# Altium schematic symbol library Schlib.SchLib: 166 symbols (part 4 of 4)
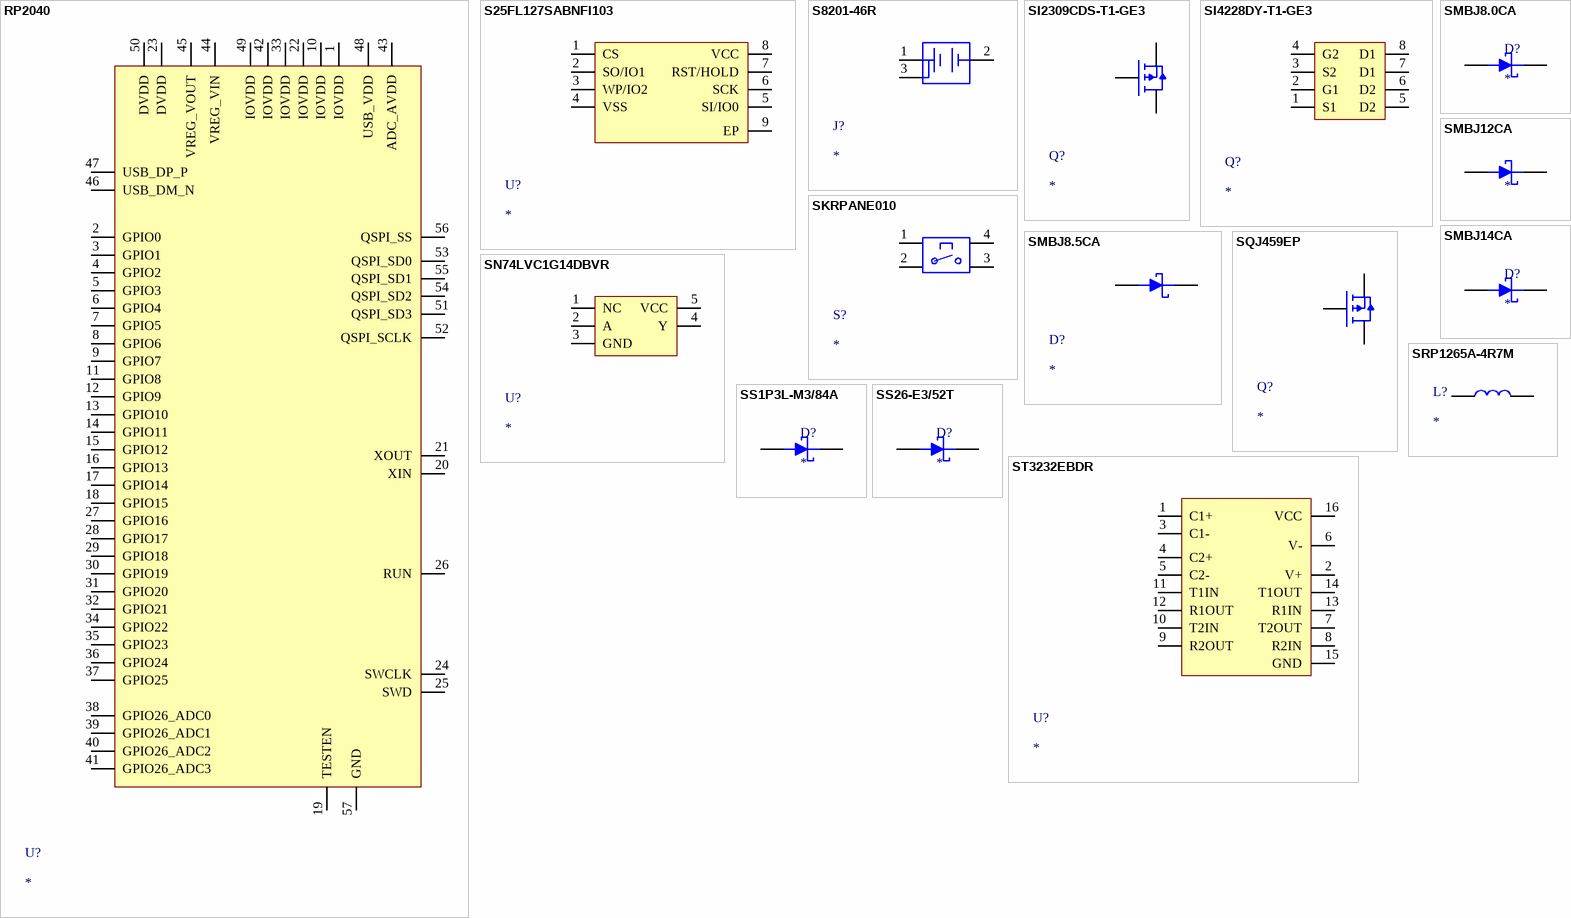
[diagram p9: symbols RP2040 to ST3232EBDR]

## SQJ459EP
designator Q?
Power Field-Effect Transistor, 52A I(D), 60V, 0.018ohm, 1-Element, P-Channel, Silicon, Metal-oxide Semiconductor FET; Manufacturer: Vishay Semiconductors; Manufacturer Part Number: SQJ459EP-T1_GE3; Package Body Material: Plastic; Avalanche Energy Rating (Eas): 80mJ; Case Connection: DRAIN; Drain-source On Resistance-Max: 18mR; Number of Elements: 1; Operating Mode: ENHANCEMENT MODE; Pulsed Drain Current-Max (IDM): 200A; Supplier: Mouser; Supplier Part Number: 78-SQJ459EP-T1_GE3; RoHS: Yes; Category: MOSFETs; Stock: 17073; Pricing: 1=1,59, 10=1,2, 50=1,2, 100=0,864, 1000=0,633, 10000=0,526 (USD); Pins: 4; Package Shape: Rectangular; Transistor Element Material: SILICON; Polarity/Channel Type: P-CHANNEL; Drain Current-Max (ID): 52A; DS Breakdown Voltage-Min: 60V; FET Technology: METAL-OXIDE SEMICONDUCTOR; Package Style: SMALL OUTLINEMeter; Surface Mount: Yes; Terminal Form: Gull Wing; Terminal Position: SINGLE; RoHS Compliant: Yes; ComponentLink1URL: https://datasheet.ciiva.com:443/pdfs/VipMasterIC/IC/VISH/VISH-S-A0004852785/VISH-S-A0004852766-1.pdf?src-supplier=IHS+Markit; ComponentLink1Description: https://datasheet.ciiva.com:443/pdfs/VipMasterIC/IC/VISH/VISH-S-A0004852785/VISH-S-A0004852766-1.pdf?src-supplier=IHS+Markit; ComponentLink2URL: http://www.farnell.com/datasheets/2614551.pdf?src-supplier=Farnell; ComponentLink2Description: http://www.farnell.com/datasheets/2614551.pdf?src-supplier=Farnell; ComponentLink3URL: http://www.farnell.com/datasheets/2614551.pdf?src-supplier=Newark; ComponentLink3Description: http://www.farnell.com/datasheets/2614551.pdf?src-supplier=Newark; ComponentLink4URL: https://datasheet.octopart.com/SQJ459EP-T1_GE3-Vishay-datasheet-137754848.pdf?src-supplier=Future+Electronics; ComponentLink4Description: https://datasheet.octopart.com/SQJ459EP-T1_GE3-Vishay-datasheet-137754848.pdf?src-supplier=Future+Electronics; ComponentLink5URL: http://www.vishay.com/docs/66963/sqj459ep.pdf?src-supplier=Digikey; ComponentLink5Description: http://www.vishay.com/docs/66963/sqj459ep.pdf?src-supplier=Digikey; ComponentLink6URL: http://www.farnell.com/datasheets/2614551.pdf?src-supplier=Element14; ComponentLink6Description: http://www.farnell.com/datasheets/2614551.pdf?src-supplier=Element14
footprint SQJ459EP-T1_GE3
pins: 1 S, 4 G, 5 D

## SRP1265A-4R7M
designator L?
Inductor Power Shielded Wirewound 4.7uH 20% 100KHz 20Q-Factor Carbonyl Powder 13.5A 8.4mOhm DCR Automotive T/R; Manufacturer: Bourns; Manufacturer Part Number: SRP1265A-4R7M; Saturation Current: 28A; DC Resistance (DCR): 8.4mR; Self Resonant Frequency: 17MHz; Supplier 1: Arrow Electronics; RoHS: Yes; Category: Fixed Inductors; Stock 1: 43000; Pricing 1: 500=0,7599, 1000=0,7322, 2500=0,6953, 5000=0,6813 (USD); Mount: Surface Mount; Case/Package: Nonstandard; Core Material: Carbonyl Powder; Min Operating Temperature: -40°C; Max Operating Temperature: 150°C; Packaging: Tape and Reel; Tolerance: 20%; Inductance: 4.7uH; Current Rating: 13.5A; Shielding: Shielded; Test Frequency: 100kHz; Max DC Current: 13.5A; Termination: SMD/SMT; DC Current: 13.5A; RMS Current (Irms): 13.5A; Inductance Tolerance: 20%; Series: SRP1265A; Length: 0.531inch; Width: 0.492inch; Height: 6.2mm; Height - Seated (Max): 0.252inch; Depth: 12.8mm; Ratings: AEC-Q200; Military Standard: Not; Reach SVHC Compliant: No; RoHS Compliant: Yes; ComponentLink1URL: http://components.arrow.com/part/dataview/62273993S852213N9116?src-supplier=Arrow+Electronics; ComponentLink1Description: http://components.arrow.com/part/dataview/62273993S852213N9116?src-supplier=Arrow+Electronics; ComponentLink2URL: http://www.farnell.com/datasheets/2361967.pdf?src-supplier=Farnell; ComponentLink2Description: http://www.farnell.com/datasheets/2361967.pdf?src-supplier=Farnell; ComponentLink3URL: http://www.alliedelec.com/images/products/datasheets/bm/BOURNS/70377578.pdf?src-supplier=Allied+Electronics; ComponentLink3Description: http://www.alliedelec.com/images/products/datasheets/bm/BOURNS/70377578.pdf?src-supplier=Allied+Electronics; ComponentLink4URL: https://media.digikey.com/pdf/Data%20Sheets/Bourns%20PDFs/SRP_Series_Bltn.pdf?src-supplier=Digikey; ComponentLink4Description: https://media.digikey.com/pdf/Data%20Sheets/Bourns%20PDFs/SRP_Series_Bltn.pdf?src-supplier=Digikey; ComponentLink5URL: http://uk.rs-online.com/webdocs/133a/0900766b8133ab5d.pdf?src-supplier=Rs; ComponentLink5Description: http://uk.rs-online.com/webdocs/133a/0900766b8133ab5d.pdf?src-supplier=Rs; ComponentLink6URL: http://www.bourns.com/data/global/pdfs/SRP1265A.pdf?src-supplier=Avnet; ComponentLink6Description: http://www.bourns.com/data/global/pdfs/SRP1265A.pdf?src-supplier=Avnet; ComponentLink7URL: http://www.farnell.com/datasheets/2361967.pdf?src-supplier=Newark; ComponentLink7Description: http://www.farnell.com/datasheets/2361967.pdf?src-supplier=Newark; ComponentLink8URL: http://www.farnell.com/datasheets/1828825.pdf?src-supplier=Element14; ComponentLink8Description: http://www.farnell.com/datasheets/1828825.pdf?src-supplier=Element14; ComponentLink9URL: http://www.bourns.com/docs/Product-Datasheets/SRP1265A.pdf?src-supplier=Digikey; ComponentLink9Description: http://www.bourns.com/docs/Product-Datasheets/SRP1265A.pdf?src-supplier=Digikey; ComponentLink10URL: http://datasheet.octopart.com/SRP1265A-4R7M-Bourns-datasheet-27832215.pdf?src-supplier=Rs; ComponentLink10Description: http://datasheet.octopart.com/SRP1265A-4R7M-Bourns-datasheet-27832215.pdf?src-supplier=Rs
footprint SRP1265A-4R7M
pins: 1, 2

## SS1P3L-M3/84A
designator D?
Rectifier Diode, Schottky, 1 Phase, 1 Element, 1.5A, 30V V(RRM), Silicon, DO-220AA; Manufacturer: Vishay Semiconductors; Manufacturer Part Number: SS1P3L-M3/84A; Supplier 1: Mouser; RoHS: Yes; Category: Rectifier Diodes; Stock 1: 18484; Pricing 1: 1=0,46, 10=0,299, 50=0,299, 100=0,164, 1000=0,14, 10000=0,103 (USD); Reverse Voltage: 30V; ComponentLink1URL: https://datasheet.ciiva.com/16217/ss1p3l-16217789.pdf?src-supplier=Future+Electronics; ComponentLink1Description: https://datasheet.ciiva.com/16217/ss1p3l-16217789.pdf?src-supplier=Future+Electronics
footprint DO-220AA
pins: 1, 2

## SS26-E3/52T
designator D?
Rectifier Diode, Schottky, 1 Phase, 1 Element, 2A, 60V V(RRM), Silicon, DO-214AA; Manufacturer: Vishay Semiconductors; Manufacturer Part Number: SS26-E3/52T; Package Body Material: Plastic; Application(s): EFFICIENCY; Forward Voltage: 700mV; Non-rep Pk Forward Current-Max: 75A; Number of Elements: 1; Qualification Status: Not Qualified; Supplier: Arrow Electronics; Supplier Part Number: SS26-E3/52T; RoHS: Yes; Category: Rectifier Diodes; Stock: 1482000; Pricing: 750=0,1023 (USD); Pins: 2; Diode Element Material: SILICON; Package Shape: Rectangular; Terminal Finish: Tin; Min Operating Temperature: -65°C; Max Operating Temperature: 150°C; JESD-609 Code: e3; Diode Type: RECTIFIER; JESD-30 Code: R-PDSO-C2; Moisture Sensitivity Level: 1; Number of Phases: 1; Max Output current: 2A; Package Style: SMALL OUTLINEMeter; Peak Reflow Temperature (Cel): 260°C; Rep Pk Reverse Voltage-Max: 60V; Surface Mount: Yes; Technology: SCHOTTKY; Terminal Form: C BEND; Terminal Position: DUAL; JEDEC-95 Code: DO-214AA; RoHS Compliant: Yes; Reach SVHC Compliant: No; ComponentLink1URL: https://datasheet.ciiva.com:443/pdfs/VipMasterIC/IC/VISH/VISH-S-A0003397022/VISH-S-A0003397022-1.pdf?src-supplier=IHS+Markit; ComponentLink1Description: https://datasheet.ciiva.com:443/pdfs/VipMasterIC/IC/VISH/VISH-S-A0003397022/VISH-S-A0003397022-1.pdf?src-supplier=IHS+Markit; ComponentLink2URL: http://www.farnell.com/datasheets/2243773.pdf?src-supplier=Farnell; ComponentLink2Description: http://www.farnell.com/datasheets/2243773.pdf?src-supplier=Farnell; ComponentLink3URL: http://www.mouser.com/ds/2/427/ss22-59686.pdf?src-supplier=Mouser; ComponentLink3Description: http://www.mouser.com/ds/2/427/ss22-59686.pdf?src-supplier=Mouser; ComponentLink4URL: http://components.arrow.com/part/dataview/42820119S9715575N5680?src-supplier=Arrow+Electronics; ComponentLink4Description: http://components.arrow.com/part/dataview/42820119S9715575N5680?src-supplier=Arrow+Electronics; ComponentLink5URL: https://www.alliedelec.com/m/d/a5cdc6a9796d04f8094106d10cac2262.pdf?src-supplier=Allied+Electronics; ComponentLink5Description: https://www.alliedelec.com/m/d/a5cdc6a9796d04f8094106d10cac2262.pdf?src-supplier=Allied+Electronics; ComponentLink6URL: http://www.produktinfo.conrad.com/datenblaetter/575000-599999/596527-da-01-en-DIODE_SCHOTTKY_SS26_E3_52T_DO_214AA_VIS.pdf?src-supplier=Conrad; ComponentLink6Description: http://www.produktinfo.conrad.com/datenblaetter/575000-599999/596527-da-01-en-DIODE_SCHOTTKY_SS26_E3_52T_DO_214AA_VIS.pdf?src-supplier=Conrad; ComponentLink7URL: http://www.vishay.com/docs/88748/88748.pdf?src-supplier=Future+Electronics; ComponentLink7Description: http://www.vishay.com/docs/88748/88748.pdf?src-supplier=Future+Electronics; ComponentLink8URL: https://datasheet.octopart.com/SS26-E3-52T-Vishay-datasheet-11549126.pdf?src-supplier=Newark; ComponentLink8Description: https://datasheet.octopart.com/SS26-E3-52T-Vishay-datasheet-11549126.pdf?src-supplier=Newark; ComponentLink9URL: https://datasheet.octopart.com/SS26-E3-52T-Vishay-datasheet-78862754.pdf?src-supplier=Element14; ComponentLink9Description: https://datasheet.octopart.com/SS26-E3-52T-Vishay-datasheet-78862754.pdf?src-supplier=Element14; ComponentLink10URL: http://www.farnell.com/datasheets/2243773.pdf?src-supplier=Newark; ComponentLink10Description: http://www.farnell.com/datasheets/2243773.pdf?src-supplier=Newark; ComponentLink11URL: https://datasheet.octopart.com/SS26-E3/52T-Vishay-datasheet-126433.pdf?src-supplier=Digikey; ComponentLink11Description: https://datasheet.octopart.com/SS26-E3/52T-Vishay-datasheet-126433.pdf?src-supplier=Digikey; ComponentLink12URL: http://www.vishay.com/docs/88748/88748.pdf?src-supplier=Avnet; ComponentLink12Description: http://www.vishay.com/docs/88748/88748.pdf?src-supplier=Avnet; ComponentLink13URL: http://www.vishay.com/docs/88748/ss22.pdf?src-supplier=Digikey; ComponentLink13Description: http://www.vishay.com/docs/88748/ss22.pdf?src-supplier=Digikey; ComponentLink14URL: http://docs-usa.electrocomponents.com/techlib:/itc_doclist_US.htm?stockno=7000962&src-supplier=Allied+Electronics; ComponentLink14Description: http://docs-usa.electrocomponents.com/techlib:/itc_doclist_US.htm?stockno=7000962&src-supplier=Allied+Electronics; ComponentLink15URL: https://datasheet.octopart.com/SS26-E3-52T-Vishay-datasheet-42673615.pdf?src-supplier=TME; ComponentLink15Description: https://datasheet.octopart.com/SS26-E3-52T-Vishay-datasheet-42673615.pdf?src-supplier=TME
footprint DO-214AA
pins: 1, 2

## ST3232EBDR
designator U?
Line Transceiver, 2 Func, 2 Driver, 2 Rcvr, PDSO16
footprint SOIC-16
pins: 1 C1+, 2 V+, 3 C1-, 4 C2+, 5 C2-, 6 V-, 7 T2OUT, 8 R2IN, 9 R2OUT, 10 T2IN, 11 T1IN, 12 R1OUT, 13 R1IN, 14 T1OUT, 15 GND, 16 VCC

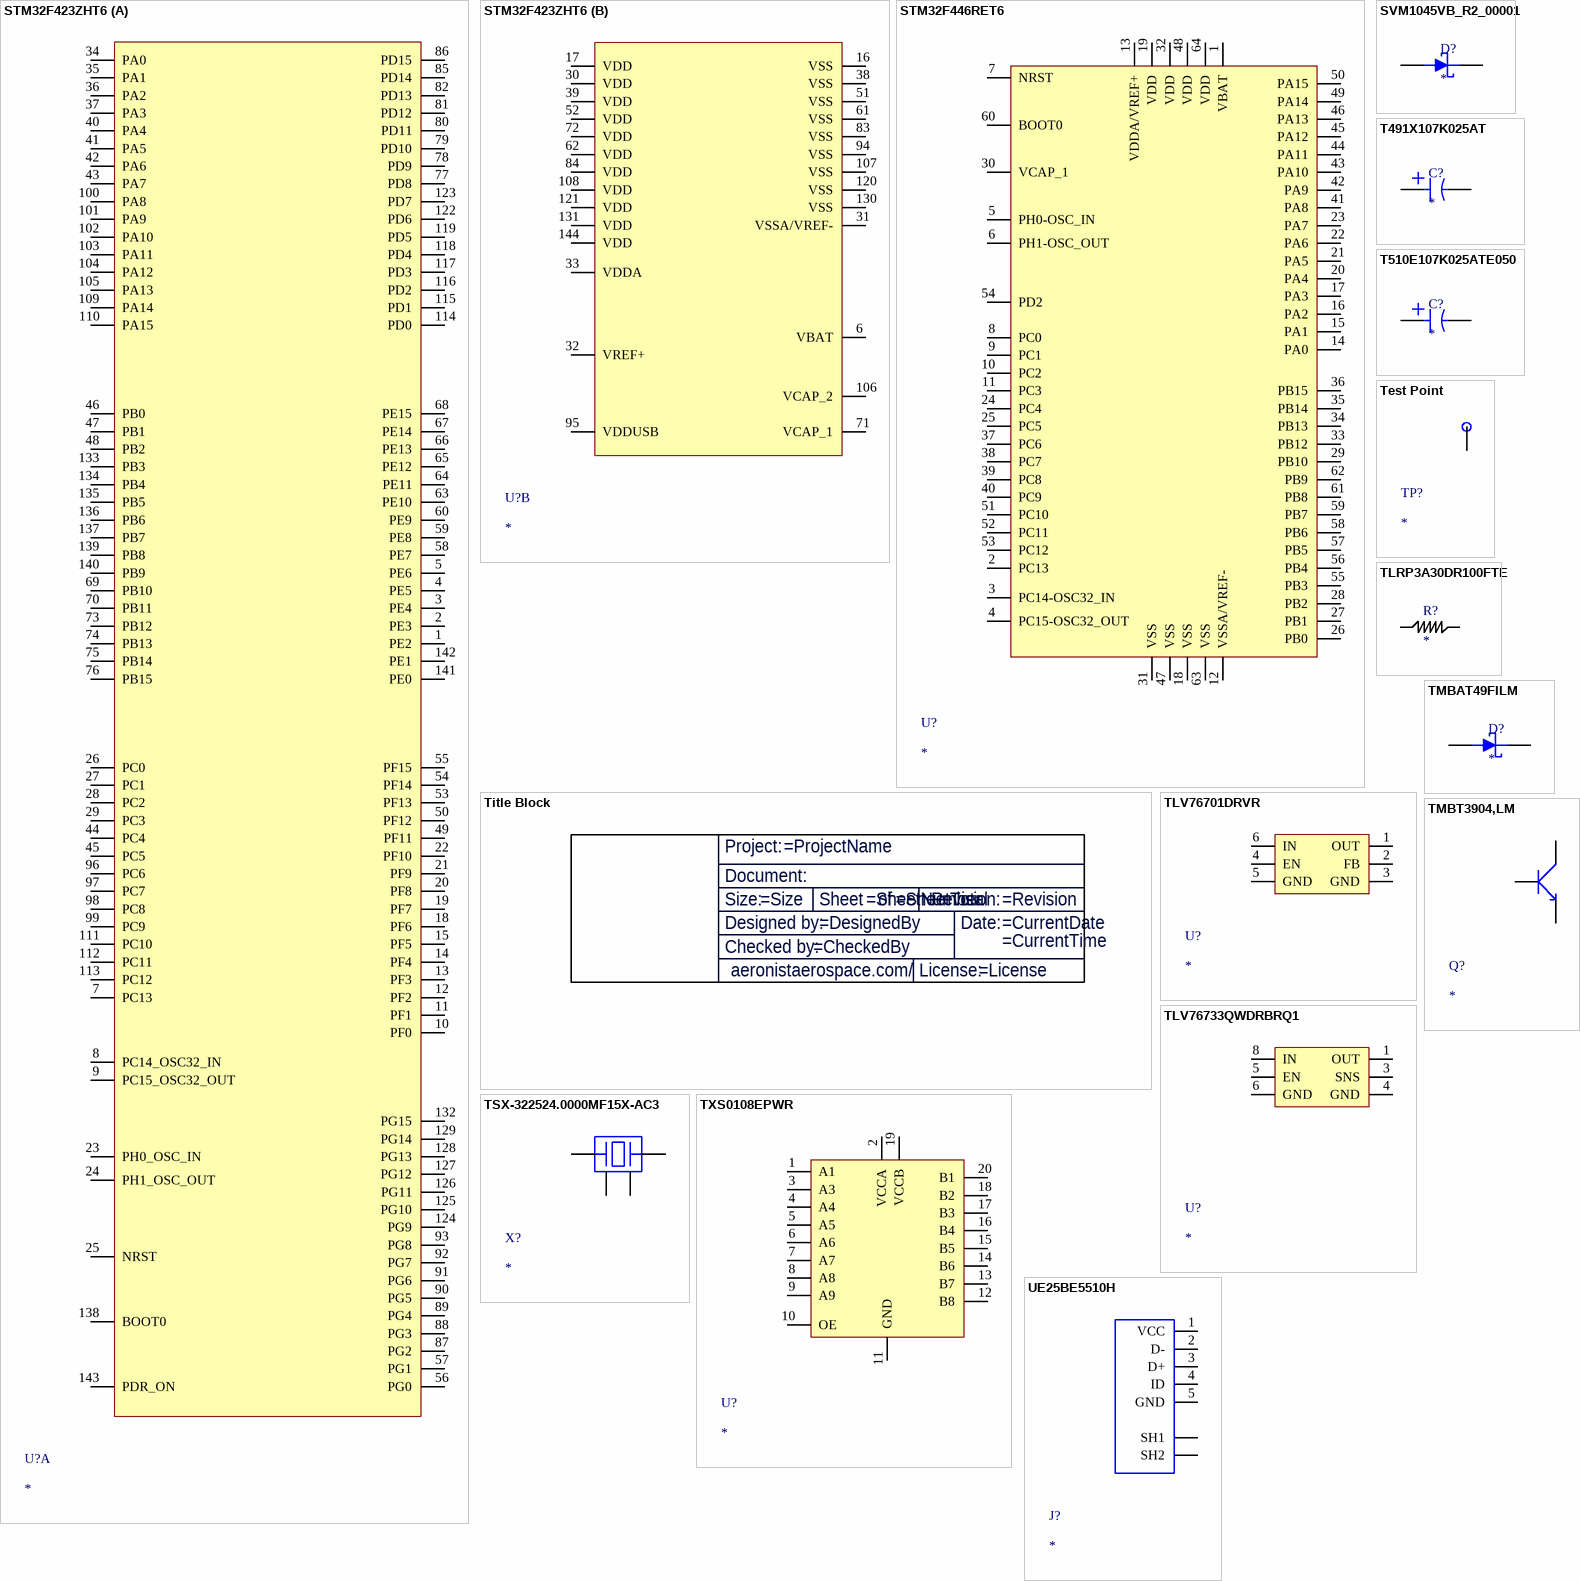
[diagram p5: symbols STM32F423ZHT6 to UE25BE5510H]

## STM32F423ZHT6
designator U?
MCU 32-Bit STM32 ARM Cortex M4 RISC 1.5MB Flash 1.8V/2.5V/3.3V 144-Pin LQFP Tray; Manufacturer: STMicroelectronics; Manufacturer Part Number: STM32F423ZHT6; Interface: I2C,SPI,USB,IrDA,MMC,SD,UART,USART,EBI/EMI; Peripherals: Brown-out Detect/Reset,POR,PWM,WDT,DMA,LCD; Number of I/Os: 114; Oscillator Type: Internal; Supplier 1: Mouser; RoHS: Yes; Category: Microcontrollers; Stock 1: 893; Pricing 1: 1=15,6, 10=14,34, 50=13,75, 100=12,11, 1000=10,78, 10000=10,78 (USD); Case/Package: LQFP; Min Operating Temperature: -40°C; Max Operating Temperature: 85°C; Memory Type: FLASH; Packaging: Tray; Core Architecture: ARM; Memory Size: 1.5MB; Series: STM32F4; RoHS Compliant: Yes; ComponentLink1URL: http://www.st.com/content/ccc/resource/technical/document/datasheet/group3/b9/bf/95/d3/b2/22/42/f0/DM00282247/files/DM00282247.pdf/jcr:content/translations/en.DM00282247.pdf?src-supplier=Digi-Key; ComponentLink1Description: http://www.st.com/content/ccc/resource/technical/document/datasheet/group3/b9/bf/95/d3/b2/22/42/f0/DM00282247/files/DM00282247.pdf/jcr:content/translations/en.DM00282247.pdf?src-supplier=Digi-Key
footprint STM32F423ZHT6
part A pins: 1 PE2, 2 PE3, 3 PE4, 4 PE5, 5 PE6, 7 PC13, 8 PC14_OSC32_IN, 9 PC15_OSC32_OUT, 10 PF0, 11 PF1, 12 PF2, 13 PF3, 14 PF4, 15 PF5, 18 PF6, 19 PF7, 20 PF8, 21 PF9, 22 PF10, 23 PH0_OSC_IN, 24 PH1_OSC_OUT, 25 NRST, 26 PC0, 27 PC1, 28 PC2, 29 PC3, 34 PA0, 35 PA1, 36 PA2, 37 PA3, 40 PA4, 41 PA5, 42 PA6, 43 PA7, 44 PC4, 45 PC5, 46 PB0, 47 PB1, 48 PB2, 49 PF11, 50 PF12, 53 PF13, 54 PF14, 55 PF15, 56 PG0, 57 PG1, 58 PE7, 59 PE8, 60 PE9, 63 PE10, 64 PE11, 65 PE12, 66 PE13, 67 PE14, 68 PE15, 69 PB10, 70 PB11, 73 PB12, 74 PB13, 75 PB14, 76 PB15, 77 PD8, 78 PD9, 79 PD10, 80 PD11, 81 PD12, 82 PD13, 85 PD14, 86 PD15, 87 PG2, 88 PG3, 89 PG4, 90 PG5, 91 PG6, 92 PG7, 93 PG8, 96 PC6, 97 PC7, 98 PC8, 99 PC9, 100 PA8, 101 PA9, 102 PA10, 103 PA11, 104 PA12, 105 PA13, 109 PA14, 110 PA15, 111 PC10, 112 PC11, 113 PC12, 114 PD0, 115 PD1, 116 PD2, 117 PD3, 118 PD4, 119 PD5, 122 PD6, 123 PD7, 124 PG9, 125 PG10, 126 PG11, 127 PG12, 128 PG13, 129 PG14, 132 PG15, 133 PB3, 134 PB4, 135 PB5, 136 PB6, 137 PB7, 138 BOOT0, 139 PB8, 140 PB9, 141 PE0, 142 PE1, 143 PDR_ON
part B pins: 6 VBAT, 16 VSS, 17 VDD, 30 VDD, 31 VSSA/VREF-, 32 VREF+, 33 VDDA, 38 VSS, 39 VDD, 51 VSS, 52 VDD, 61 VSS, 62 VDD, 71 VCAP_1, 72 VDD, 83 VSS, 84 VDD, 94 VSS, 95 VDDUSB, 106 VCAP_2, 107 VSS, 108 VDD, 120 VSS, 121 VDD, 130 VSS, 131 VDD, 144 VDD

## STM32F446RET6
designator U?
ARM® Cortex®-M4 STM32 F4 Microcontroller IC 32-Bit 180MHz 512KB (512K x 8) FLASH 64-LQFP (10x10); Manufacturer: STMicroelectronics; Manufacturer Part Number: STM32F446RET6; Supplier 1: Mouser; RoHS: Yes; Category: Microcontrollers; Stock 1: 2954; Pricing 1: 1=12,45, 10=11,25, 50=10,54, 100=9,5, 1000=6,72, 10000=6,72 (USD); ComponentLink1URL: http://www.mouser.com/ds/2/389/stm32f446mc-956216.pdf?src-supplier=Mouser; ComponentLink1Description: http://www.mouser.com/ds/2/389/stm32f446mc-956216.pdf?src-supplier=Mouser; ComponentLink2URL: http://www.farnell.com/datasheets/2309063.pdf?src-supplier=Farnell; ComponentLink2Description: http://www.farnell.com/datasheets/2309063.pdf?src-supplier=Farnell; ComponentLink3URL: https://datasheet.octopart.com/STM32F446RET6-STMicroelectronics-datasheet-58295083.pdf?src-supplier=Future+Electronics; ComponentLink3Description: https://datasheet.octopart.com/STM32F446RET6-STMicroelectronics-datasheet-58295083.pdf?src-supplier=Future+Electronics; ComponentLink4URL: http://www.st.com/content/ccc/resource/technical/document/datasheet/65/cb/75/50/53/d6/48/24/DM00141306.pdf/files/DM00141306.pdf/jcr:content/translations/en.DM00141306.pdf?src-supplier=Digi-Key; ComponentLink4Description: http://www.st.com/content/ccc/resource/technical/document/datasheet/65/cb/75/50/53/d6/48/24/DM00141306.pdf/files/DM00141306.pdf/jcr:content/translations/en.DM00141306.pdf?src-supplier=Digi-Key; ComponentLink5URL: http://www.farnell.com/datasheets/2309063.pdf?src-supplier=Element14; ComponentLink5Description: http://www.farnell.com/datasheets/2309063.pdf?src-supplier=Element14; ComponentLink6URL: https://datasheet.octopart.com/STM32F446RET6-STMicroelectronics-datasheet-41797127.pdf?src-supplier=Element14; ComponentLink6Description: https://datasheet.octopart.com/STM32F446RET6-STMicroelectronics-datasheet-41797127.pdf?src-supplier=Element14; ComponentLink7URL: http://www.farnell.com/datasheets/2309063.pdf?src-supplier=Newark; ComponentLink7Description: http://www.farnell.com/datasheets/2309063.pdf?src-supplier=Newark; ComponentLink8URL: https://datasheet.octopart.com/STM32F446RET6-STMicroelectronics-datasheet-83961502.pdf?src-supplier=SHENGYU+ELECTRONICS; ComponentLink8Description: https://datasheet.octopart.com/STM32F446RET6-STMicroelectronics-datasheet-83961502.pdf?src-supplier=SHENGYU+ELECTRONICS
footprint STM32F446RET6
pins: 1 VBAT, 2 PC13, 3 PC14-OSC32_IN, 4 PC15-OSC32_OUT, 5 PH0-OSC_IN, 6 PH1-OSC_OUT, 7 NRST, 8 PC0, 9 PC1, 10 PC2, 11 PC3, 12 VSSA/VREF-, 13 VDDA/VREF+, 14 PA0, 15 PA1, 16 PA2, 17 PA3, 18 VSS, 19 VDD, 20 PA4, 21 PA5, 22 PA6, 23 PA7, 24 PC4, 25 PC5, 26 PB0, 27 PB1, 28 PB2, 29 PB10, 30 VCAP_1, 31 VSS, 32 VDD, 33 PB12, 34 PB13, 35 PB14, 36 PB15, 37 PC6, 38 PC7, 39 PC8, 40 PC9, 41 PA8, 42 PA9, 43 PA10, 44 PA11, 45 PA12, 46 PA13, 47 VSS, 48 VDD, 49 PA14, 50 PA15, 51 PC10, 52 PC11, 53 PC12, 54 PD2, 55 PB3, 56 PB4, 57 PB5, 58 PB6, 59 PB7, 60 BOOT0, 61 PB8, 62 PB9, 63 VSS, 64 VDD

## SVM1045VB_R2_00001
designator D?
Rectifier Diode, Schottky, 1 Phase, 1 Element, 10A, 45V V(RRM), Silicon, TO-277B; Manufacturer: Pan Jit; Manufacturer Part Number: SVM1045VB_R2_00001; Supplier: Mouser; Supplier Part Number: 241-SVM1045VBR200001; RoHS: Yes; Pricing: 1=0,56, 10=0,37, 50=0,37, 100=0,249, 1000=0,186, 10000=0,186 (USD); Reach SVHC Compliant: No
footprint TO-277B
pins: 2, 3

## T491X107K025AT
designator C?
RF SMA Connector, 1 Contact(s), Female, Board Mount, Solder Terminal, Locking, Jack; Manufacturer: KEMET; Manufacturer Part Number: T491X107K025AT; Manufacturer Series: 73100; Option: General Purpose; Additional Feature: ROHS COMPLIANT; Body/Shell Style: RECEPTACLE; Characteristic Impedance: 50R; Contact Style: Coax; Coupling Type: Threaded; Dielectric Withstanding Voltage (AC): 1.4kV; Durability: 500Cycles; Filter Feature: No; Insertion Force-Max: 8.896N; Insertion Loss: 0.156dB; Insulation Resistance: 5GR; Number of Ports: 1; Operating Frequency-Max: 27GHz; Panel Mount: No; VSWR: 1.31; Withdrawl Force-Min: 0.278N; Body Breadth: 0.376inch; Body Depth: 0.583inch; Reliability: COMMERCIAL; Supplier 1: Avnet; RoHS: No; Category: Tantalum Capacitors; Stock 1: 1196; Pricing 1: 1=3,28, 10=2,65, 25=2,49, 50=2,32, 100=2,03 (USD); ComponentLink1URL: https://datasheet.ciiva.com/28571/1854511-28571717.pdf?src-supplier=Element14; ComponentLink1Description: https://datasheet.ciiva.com/28571/1854511-28571717.pdf?src-supplier=Element14; ComponentLink2URL: https://datasheet.ciiva.com/6229/kem-t2005-t491-6229625.pdf?src-supplier=Digikey; ComponentLink2Description: https://datasheet.ciiva.com/6229/kem-t2005-t491-6229625.pdf?src-supplier=Digikey; ComponentLink3URL: https://datasheet.ciiva.com/6229/kem-t2005-t491-6229626.pdf?src-supplier=Digikey; ComponentLink3Description: https://datasheet.ciiva.com/6229/kem-t2005-t491-6229626.pdf?src-supplier=Digikey; ComponentLink4URL: https://datasheet.ciiva.com/6229/kem-t2005-t491-6229627.pdf?src-supplier=Digikey; ComponentLink4Description: https://datasheet.ciiva.com/6229/kem-t2005-t491-6229627.pdf?src-supplier=Digikey; ComponentLink5URL: https://datasheet.ciiva.com/22716/1854511-22716393.pdf?src-supplier=Element14; ComponentLink5Description: https://datasheet.ciiva.com/22716/1854511-22716393.pdf?src-supplier=Element14; ComponentLink6URL: https://datasheet.ciiva.com/22716/1854511-22716394.pdf?src-supplier=Element14; ComponentLink6Description: https://datasheet.ciiva.com/22716/1854511-22716394.pdf?src-supplier=Element14; Supplier: Arrow Electronics; Supplier Part Number: 73100-0114; Stock: 1616; Pricing: 1=8,89, 10=7,87, 25=7,52, 50=7,51, 100=7,08, 250=6,58, 500=6,2 (USD); Mounting Technology: Board; Contact Finish - Mating: NOT SPECIFIED; Contact Finish - Termination: GOLD; Insulation Material: POLYTETRAFLUORO; Shell Finish: Gold; Shell Material: Brass; Min Operating Temperature: -65°C; Max Operating Temperature: 165°C; Connector Type: SMA; JESD-609 Code: e4; Contact Gender: Female; Mounting Style: RIGHT ANGLE; Termination: Solder; Number of Contacts: 1; Mounting Option 1: LOCKING; RoHS Compliant: Yes; DIN Conformance: No; IEC Conformance: No; MIL Conformance: No; Reach SVHC Compliant: No; ComponentLink7URL: https://datasheet.ciiva.com:443/pdfs/VipMasterIC/IC/MOLE/MOLE-S-A0001318164/MOLE-S-A0001406803-1.pdf?src-supplier=IHS+Markit; ComponentLink7Description: https://datasheet.ciiva.com:443/pdfs/VipMasterIC/IC/MOLE/MOLE-S-A0001318164/MOLE-S-A0001406803-1.pdf?src-supplier=IHS+Markit; ComponentLink8URL: https://datasheet.ciiva.com/7996/1596725-7996452.pdf?src-supplier=Element14; ComponentLink8Description: https://datasheet.ciiva.com/7996/1596725-7996452.pdf?src-supplier=Element14; ComponentLink9URL: https://datasheet.ciiva.com/30104/82220731000114-rf-coax-nectors-30104097.pdf?src-supplier=Onlinecomponents.com; ComponentLink9Description: https://datasheet.ciiva.com/30104/82220731000114-rf-coax-nectors-30104097.pdf?src-supplier=Onlinecomponents.com; ComponentLink10URL: https://datasheet.ciiva.com/26945/getdatasheetpartid-152702-26945396.pdf?src-supplier=Verical; ComponentLink10Description: https://datasheet.ciiva.com/26945/getdatasheetpartid-152702-26945396.pdf?src-supplier=Verical
footprint T491X107K025AT
pins: 1, 2

## T510E107K025ATE050
designator C?
Cap Tant Solid 100uF 25V E CASE 10% (7.3 X 6 X 3.6mm) SMD 7260-38 0.05 Ohm 125 C T/R; Manufacturer: KEMET; Manufacturer Part Number: T510E107K025ATE050; Supplier 1: Mouser; RoHS: Yes; Category: Tantalum Capacitors; Stock 1: 1837; Pricing 1: 1=9,97, 10=8,71, 50=7,85, 100=7,82, 1000=7,55, 10000=7,55 (USD); ComponentLink1URL: https://datasheet.ciiva.com/6247/kem-t2014-t510-6247173.pdf?src-supplier=Digikey; ComponentLink1Description: https://datasheet.ciiva.com/6247/kem-t2014-t510-6247173.pdf?src-supplier=Digikey; ComponentLink2URL: https://datasheet.ciiva.com/7759/kem-t2014-t510-7759191.pdf?src-supplier=Element14; ComponentLink2Description: https://datasheet.ciiva.com/7759/kem-t2014-t510-7759191.pdf?src-supplier=Element14; ComponentLink3URL: https://datasheet.ciiva.com/14593/70095946-14593544.pdf?src-supplier=Allied+Electronics; ComponentLink3Description: https://datasheet.ciiva.com/14593/70095946-14593544.pdf?src-supplier=Allied+Electronics
footprint T510E107K025ATE050
pins: 1, 2

## Test Point
designator TP?
footprint TEST POINT
pins: TP

## Title Block
designator ?  (graphical)
text: Project:; Document:; Size:; Sheet; of; Revision:; Designed by:; Date:; Checked by:; aeronistaerospace.com/; License:

## TLRP3A30DR100FTE
designator R?
Res, 0R1, 1%, 3W, Metal Strip, SMD Rohs Compliant: Yes; Manufacturer: TE Connectivity; Manufacturer Part Number: TLRP3A30DR100FTE; Supplier 1: Farnell; RoHS: No; Category: Chip SMD Resistors; Stock 1: 1580; Pricing 1: 10=0,393, 100=0,273, 500=0,221, 1000=0,179, 2000=0,177, 4000=0,166, 20000=0,163, 40000=0,159 (EUR)
footprint RES 2512
pins: 1, 2

## TLV76701DRVR
designator U?
Adjustable Positive Standard Regulator, 0.8V Min, 13.6V Max, PDSO6; Manufacturer: Texas Instruments; Manufacturer Part Number: TLV76701DRVR; Supplier: Mouser; Supplier Part Number: 595-TLV76701DRVR; RoHS: Yes; Category: Voltage Regulators - Linear; Stock: 6964; Pricing: 1=0,32, 10=0,22, 50=0,196, 100=0,169, 1000=0,133, 10000=0,127 (USD); ComponentLink1URL: https://www.ti.com:443/lit/ds/symlink/tlv767.pdf?src-supplier=IHS+Markit; ComponentLink1Description: https://www.ti.com:443/lit/ds/symlink/tlv767.pdf?src-supplier=IHS+Markit
footprint WSON-6 2X2
pins: 1 OUT, 2 FB, 3 GND, 4 EN, 5 GND, 6 IN

## TLV76733QWDRBRQ1
designator U?
Fixed Positive Standard Regulator, 3.3VPDSO8; Manufacturer: Texas Instruments; Manufacturer Part Number: TLV76733QWDRBRQ1; Supplier: Mouser; Supplier Part Number: 595-TLV76733QWDRBRQ1; RoHS: Yes; Category: Voltage Regulators - Linear; Stock: 5716; Pricing: 1=1,24, 10=0,9, 50=0,815, 100=0,721, 1000=0,6, 10000=0,573 (USD); RoHS Compliant: Yes
footprint WSON-8
pins: 1 OUT, 3 SNS, 4 GND, 5 EN, 6 GND, 8 IN

## TMBAT49FILM
designator D?
Rectifier Diode Small Signal Schottky Si 80V 0.5A 2-Pin MELF T/R; Manufacturer: STMicroelectronics; Manufacturer Part Number: TMBAT49FILM; Supplier 1: Mouser; RoHS: Yes; Category: Rectifier Diodes; Stock 1: 11456; Pricing 1: 1=0,55, 10=0,468, 50=0,468, 100=0,326, 1000=0,228, 10000=0,159 (USD); ComponentLink1URL: https://datasheet.ciiva.com/4715/cd00000809-92451-4715102.pdf?src-supplier=Mouser; ComponentLink1Description: https://datasheet.ciiva.com/4715/cd00000809-92451-4715102.pdf?src-supplier=Mouser; ComponentLink2URL: https://datasheet.ciiva.com/16988/0900766b80db299a-16988744.pdf?src-supplier=Allied+Electronics; ComponentLink2Description: https://datasheet.ciiva.com/16988/0900766b80db299a-16988744.pdf?src-supplier=Allied+Electronics; ComponentLink3URL: https://datasheet.ciiva.com/22697/1766334-22697011.pdf?src-supplier=Element14; ComponentLink3Description: https://datasheet.ciiva.com/22697/1766334-22697011.pdf?src-supplier=Element14; ComponentLink4URL: https://datasheet.ciiva.com/16501/cd00000809-16501349.pdf?src-supplier=Future+Electronics; ComponentLink4Description: https://datasheet.ciiva.com/16501/cd00000809-16501349.pdf?src-supplier=Future+Electronics; ComponentLink5URL: https://datasheet.ciiva.com/15144/getdatasheetpartid-39750-15144086.pdf?src-supplier=Verical; ComponentLink5Description: https://datasheet.ciiva.com/15144/getdatasheetpartid-39750-15144086.pdf?src-supplier=Verical; ComponentLink6URL: https://datasheet.ciiva.com/915/cd00000809-915819.pdf?src-supplier=Digikey; ComponentLink6Description: https://datasheet.ciiva.com/915/cd00000809-915819.pdf?src-supplier=Digikey; ComponentLink7URL: https://datasheet.ciiva.com/915/cd00000809-915820.pdf?src-supplier=Digikey; ComponentLink7Description: https://datasheet.ciiva.com/915/cd00000809-915820.pdf?src-supplier=Digikey; ComponentLink8URL: https://datasheet.ciiva.com/915/cd00000809-915821.pdf?src-supplier=Digikey; ComponentLink8Description: https://datasheet.ciiva.com/915/cd00000809-915821.pdf?src-supplier=Digikey; ComponentLink9URL: https://datasheet.ciiva.com/7622/1766334-7622348.pdf?src-supplier=Element14; ComponentLink9Description: https://datasheet.ciiva.com/7622/1766334-7622348.pdf?src-supplier=Element14; ComponentLink10URL: https://datasheet.ciiva.com/7964/cd00000809-7964118.pdf?src-supplier=Element14; ComponentLink10Description: https://datasheet.ciiva.com/7964/cd00000809-7964118.pdf?src-supplier=Element14
footprint TMBAT49FILM
pins: 1, 2

## TMBT3904,LM
designator Q?
TRANSNPN50V0.15ASOT23-3; Manufacturer: Toshiba; Manufacturer Part Number: TMBT3904,LM; Max Collector Current: 150mA; Max Power Dissipation: 320mW; Transition Frequency: 300MHz; Collector Emitter Breakdown Voltage: 50V; Collector-emitter Voltage-Max: 300mV; Supplier 1: Arrow Electronics; RoHS: Yes; Category: BJTs; Stock 1: 13; Pricing 1: 1=0,0768, 10=0,0547, 100=0,0248, 1000=0,0144, 3000=0,0141 (USD); Mount: Surface Mount; Case/Package: TO-236-3; Packaging: Cut Tape; Max Breakdown Voltage: 50V; Series: -; ComponentLink1URL: http://www.mouser.com/ds/2/408/TMBT3904_datasheet_en_20150108-736672.pdf?src-supplier=Mouser; ComponentLink1Description: http://www.mouser.com/ds/2/408/TMBT3904_datasheet_en_20150108-736672.pdf?src-supplier=Mouser; ComponentLink2URL: https://toshiba.semicon-storage.com/info/docget.jsp?did=29706&prodName=TMBT3904&src-supplier=Digikey; ComponentLink2Description: https://toshiba.semicon-storage.com/info/docget.jsp?did=29706&prodName=TMBT3904&src-supplier=Digikey
footprint TMBT3904,LM
pins: 1 B, 2 E, 3 C

## TSX-322524.0000MF15X-AC3
designator X?
CRYSTAL 24.0000MHZ 9PF SMD; Manufacturer: Epson; Manufacturer Part Number: TSX-322524.0000MF15X-AC3; Frequency: 24MHz; Frequency Tolerance: 10ppm; ESR (Equivalent Series Resistance): 40R; Frequency Stability: 15ppm; Drive Level: 200uW; Supplier 1: Utmel Electronic; RoHS: Yes; Category: Uncategorized; Stock 1: 343841; Pricing 1: 1=0,8333, 10=0,7861, 100=0,7416, 1000=0,6997, 10000=0,6601 (USD); Mount: Surface Mount; Case/Package: SMD/SMT; Weight: 0.000564oz; Min Operating Temperature: -40°C; Max Operating Temperature: 85°C; Package Quantity: 250; Load Capacitance: 9pF; Packaging: Tape and Reel; Tolerance: 10ppm; Termination: SMD/SMT; Series: TSX-3225; Length: 3.2mm; Width: 2.5mm; Height: 0.6mm; Lead Free: Lead Free; RoHS Compliant: Yes; ComponentLink1URL: https://www5.epsondevice.com/en/information/support/pdf/june_2018_psc_masterbook.pdf?src-supplier=Digi-Key; ComponentLink1Description: https://www5.epsondevice.com/en/information/support/pdf/june_2018_psc_masterbook.pdf?src-supplier=Digi-Key; ComponentLink2URL: https://support.epson.biz/td/api/doc_check.php?dl=brief_TSX-3225&lang=en&src-supplier=Digi-Key; ComponentLink2Description: https://support.epson.biz/td/api/doc_check.php?dl=brief_TSX-3225&lang=en&src-supplier=Digi-Key; ComponentLink3URL: http://www5.epsondevice.com/en/products/crystal_unit/tsx3225.html#?src-supplier=Mouser; ComponentLink3Description: http://www5.epsondevice.com/en/products/crystal_unit/tsx3225.html#?src-supplier=Mouser
footprint TSX-3225 24.0000MF15X-AC3
pins: 1, 2, 3, 4

## TXS0108EPWR
designator U?
IC 8BIT NON-INV TRANSLTR 20TSSOP; Manufacturer: Texas Instruments; Manufacturer Part Number: TXS0108EPWR; Supplier 1: Mouser; RoHS: Yes; Category: Voltage Level Shifters; Stock 1: 211304; Pricing 1: 1=1,53, 10=1,3, 50=1,3, 100=1,04, 1000=0,75, 10000=0,667 (USD); ComponentLink1URL: https://datasheet.ciiva.com/14287/txs0108e-14287280.pdf?src-supplier=Farnell; ComponentLink1Description: https://datasheet.ciiva.com/14287/txs0108e-14287280.pdf?src-supplier=Farnell; ComponentLink2URL: https://datasheet.ciiva.com/15096/getdatasheetpartid-322119-15096276.pdf?src-supplier=Verical; ComponentLink2Description: https://datasheet.ciiva.com/15096/getdatasheetpartid-322119-15096276.pdf?src-supplier=Verical; ComponentLink3URL: https://datasheet.ciiva.com/4834/sces642b-127094-4834401.pdf?src-supplier=Mouser; ComponentLink3Description: https://datasheet.ciiva.com/4834/sces642b-127094-4834401.pdf?src-supplier=Mouser; ComponentLink4URL: https://datasheet.ciiva.com/28653/1714661-28653429.pdf?src-supplier=Element14; ComponentLink4Description: https://datasheet.ciiva.com/28653/1714661-28653429.pdf?src-supplier=Element14; ComponentLink5URL: https://datasheet.ciiva.com/1899/txs0108e-1899604.pdf?src-supplier=Digi-Key; ComponentLink5Description: https://datasheet.ciiva.com/1899/txs0108e-1899604.pdf?src-supplier=Digi-Key; ComponentLink6URL: https://datasheet.ciiva.com/1899/txs0108e-1899605.pdf?src-supplier=Digi-Key; ComponentLink6Description: https://datasheet.ciiva.com/1899/txs0108e-1899605.pdf?src-supplier=Digi-Key; ComponentLink7URL: https://datasheet.ciiva.com/1899/txs0108e-1899606.pdf?src-supplier=Digi-Key; ComponentLink7Description: https://datasheet.ciiva.com/1899/txs0108e-1899606.pdf?src-supplier=Digi-Key; ComponentLink8URL: https://datasheet.ciiva.com/14287/txs0108e-14287532.pdf?src-supplier=Avnet; ComponentLink8Description: https://datasheet.ciiva.com/14287/txs0108e-14287532.pdf?src-supplier=Avnet; ComponentLink9URL: https://datasheet.ciiva.com/1508/1815244-1508732.pdf?src-supplier=Element14; ComponentLink9Description: https://datasheet.ciiva.com/1508/1815244-1508732.pdf?src-supplier=Element14
footprint TXS0108EPWR
pins: 1 A1, 2 VCCA, 3 A3, 4 A4, 5 A5, 6 A6, 7 A7, 8 A8, 9 A9, 10 OE, 11 GND, 12 B8, 13 B7, 14 B6, 15 B5, 16 B4, 17 B3, 18 B2, 19 VCCB, 20 B1

## UE25BE5510H
designator J?
USB Connector, 5 Contact(s), Female, Straight, Solder Terminal, Locking, Receptacle; Manufacturer: Amphenol Commercial; Manufacturer Part Number: UE25BE5510H; Connector Type: TELECOM AND DATACOM CONNECTOR; Board Mounting Option: HOLE .086-.098; Contact Resistance: 20mR; Dielectric Withstanding Voltage (AC): 750V; Insulation Resistance: 1GR; Number Of Connectors: 1; Number Of PCB Rows: 2; PCB Contact Pattern: STAGGERED; Polarization Key: POLARIZED HOUSING; Rated Current (Signal): 1A; Number of Contacts: 5; Option: General Purpose; Additional Feature: ROHS COMPLIANT; Empty Shell: No; Body Breadth: 0.156inch; Body Depth: 0.362inch; Body Length: 0.303inch; PCB Contact Row Spacing: 1.8034mm; Reference Standard: UL; Reliability: COMMERCIAL; Supplier 1: Arrow Electronics; RoHS: Yes; Category: USB Connectors; Stock 1: 16852; Pricing 1: 1=0,4693, 10=0,4507, 25=0,4468, 50=0,4303, 100=0,4157 (USD); ComponentLink1URL: http://www.alliedelec.com/m/d/e7e3d7a920045eebbdef787e60d8b001.pdf?src-supplier=Allied+Electronics; ComponentLink1Description: http://www.alliedelec.com/m/d/e7e3d7a920045eebbdef787e60d8b001.pdf?src-supplier=Allied+Electronics; ComponentLink2URL: https://www.amphenolcanada.com/ProductSearch/drawings/AC/UE25BEX510X.pdf?src-supplier=Digi-Key; ComponentLink2Description: https://www.amphenolcanada.com/ProductSearch/drawings/AC/UE25BEX510X.pdf?src-supplier=Digi-Key; ComponentLink3URL: https://datasheet.octopart.com/UE25-BE55-10H-Amphenol-datasheet-14681365.pdf?src-supplier=Future+Electronics; ComponentLink3Description: https://datasheet.octopart.com/UE25-BE55-10H-Amphenol-datasheet-14681365.pdf?src-supplier=Future+Electronics; ComponentLink4URL: https://datasheet.octopart.com/UE25BE5510H-Amphenol-Communications-Solutions-datasheet-62282189.pdf?src-supplier=Electro+Sonic; ComponentLink4Description: https://datasheet.octopart.com/UE25BE5510H-Amphenol-Communications-Solutions-datasheet-62282189.pdf?src-supplier=Electro+Sonic; Supplier Part Number 1: UE25BE5510H; Supplier: Mouser; Supplier Part Number: 710-651005136421; Stock: 3705; Pricing: 1=3,17, 10=2,79, 50=2,63, 100=2,36, 1000=2,14, 10000=2,14 (USD); Mounting Technology: Board; Contact Finish - Mating: GOLD; Insulation Material: Polybutylene; Contact Material: Copper Alloy; Contact Finish - Termination: Tin/Nickel/Gold (Sn/Ni/Au); Shell Finish: Nickel; Shell Material: Brass; Min Operating Temperature: -40°C; Max Operating Temperature: 105°C; Body/Shell Style: RECEPTACLE; Contact Gender: Female; Mounting Style: STRAIGHT; Termination: Solder; JESD-609 Code: e2; Filter Feature: No; Mixed Contacts: No; Mounting Option 1: LOCKING; Terminal Length: 0.079inch; Terminal Pitch: 1.6002mm; Flammability Rating: UL94 V-0; Reach SVHC Compliant: Yes; RoHS Compliant: Yes; DIN Conformance: No; IEC Conformance: No; MIL Conformance: No; ComponentLink5URL: https://datasheet.ciiva.com:443/pdfs/VipMasterIC/IC/MIDC/MIDC-S-A0004583041/MIDC-S-A0004583041-1.pdf?src-supplier=IHS+Markit; ComponentLink5Description: https://datasheet.ciiva.com:443/pdfs/VipMasterIC/IC/MIDC/MIDC-S-A0004583041/MIDC-S-A0004583041-1.pdf?src-supplier=IHS+Markit; ComponentLink6URL: https://datasheet.ciiva.com/1098/1644185-1098935.pdf?src-supplier=Element14; ComponentLink6Description: https://datasheet.ciiva.com/1098/1644185-1098935.pdf?src-supplier=Element14; ComponentLink7URL: https://datasheet.ciiva.com/11731/0900766b81023ab6-11731299.pdf?src-supplier=Rs; ComponentLink7Description: https://datasheet.ciiva.com/11731/0900766b81023ab6-11731299.pdf?src-supplier=Rs; ComponentLink8URL: https://datasheet.ciiva.com/4598/651005136421-78506-4598769.pdf?src-supplier=Mouser; ComponentLink8Description: https://datasheet.ciiva.com/4598/651005136421-78506-4598769.pdf?src-supplier=Mouser; ComponentLink9URL: https://datasheet.ciiva.com/48712/001088420-da-01-en-wr-com-mini-usb-typ-b-651005136421-48712666.pdf?src-supplier=Conrad; ComponentLink9Description: https://datasheet.ciiva.com/48712/001088420-da-01-en-wr-com-mini-usb-typ-b-651005136421-48712666.pdf?src-supplier=Conrad
footprint UE25BE55H
pins: 1 VCC, 2 D-, 3 D+, 4 ID, 5 GND, SH1, SH2

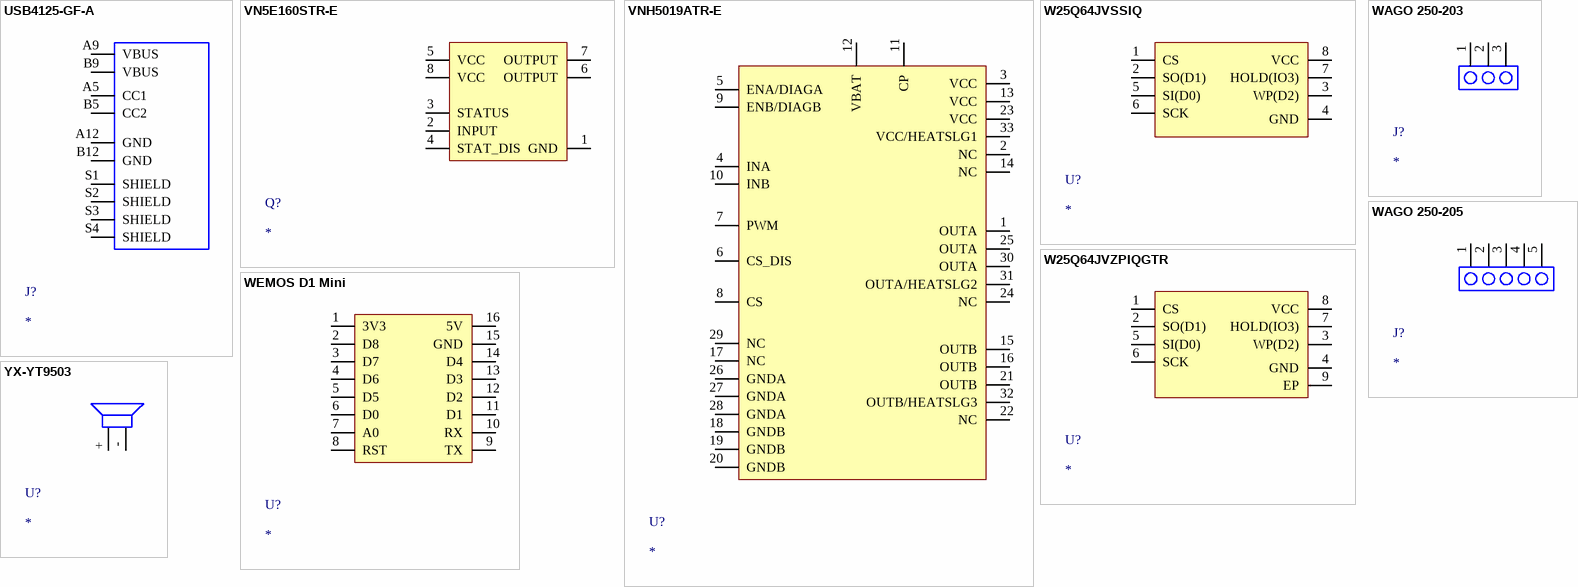
[diagram p6: symbols USB4125-GF-A to YX-YT9503]

## USB4125-GF-A
designator J?
Type Connector 6 Pin
footprint USB4125-GF-A
pins: A5 CC1, A9 VBUS, A12 GND, B5 CC2, B9 VBUS, B12 GND, S1 SHIELD, S2 SHIELD, S3 SHIELD, S4 SHIELD

## VN5E160STR-E
designator Q?
Line Transceiver, 2 Func, 2 Driver, 2 Rcvr, PDSO16; Manufacturer: STMicroelectronics; Manufacturer Part Number: ST3232EBDR; Package Body Material: Plastic; Differential Output: No; Driver Number of Bits: 2; High Level Input Current-Max: 1uA; Input Characteristics: SCHMITT TRIGGER; Out Swing-Min: 10V; Output Low Current-Max: 1.6mA; Package Equivalence Code: SOP16,.25; Power Supplies: 3.3/5V; Receive Delay-Max: 50ns; Max Supply Current: 1mA; Max Supply Voltage: 5.5V; Min Supply Voltage: 3V; Nominal Supply Voltage: 3.3V; Time @ Peak Reflow Temperature-Max (s): 30s; Transmit Delay-Max: 150ns; Qualification Status: Not Qualified; Supplier: Future Electronics; Supplier Part Number: 4186607; RoHS: Yes; Category: RS-232 / RS-422 / RS-485 Interface ICs; Stock: 25000; Pricing: 2500=0,285, 5000=0,28, 12500=0,275, 25000=0,27 (USD); Case/Package: SOP; Pins: 16; Package Shape: Rectangular; Terminal Finish: Nickel; Min Operating Temperature: -40°C; Max Operating Temperature: 85°C; JESD-609 Code: e4; Interface IC Type: LINE TRANSCEIVER; JESD-30 Code: R-PDSO-G16; Moisture Sensitivity Level: 1; Channels: 2; Package Style: SMALL OUTLINEMeter; Peak Reflow Temperature (Cel): 260°C; Receiver Number of Bits: 2; Surface Mount: Yes; Terminal Form: Gull Wing; Terminal Position: DUAL; Length: 9.9mm; Width: 3.9mm; Height - Seated (Max): 1.75mm; Terminal Pitch: 1.27mm; Temperature Grade: INDUSTRIAL; Reach SVHC Compliant: Yes; RoHS Compliant: Yes; ComponentLink1URL: https://datasheet.ciiva.com:443/pdfs/VipMasterIC/IC/SGST/SGST-S-A0005444247/SGST-S-A0005444247-1.pdf?src-supplier=IHS+Markit; ComponentLink1Description: https://datasheet.ciiva.com:443/pdfs/VipMasterIC/IC/SGST/SGST-S-A0005444247/SGST-S-A0005444247-1.pdf?src-supplier=IHS+Markit; ComponentLink2URL: https://datasheet.ciiva.com/1701/cd00002950-1701662.pdf?src-supplier=Digikey; ComponentLink2Description: https://datasheet.ciiva.com/1701/cd00002950-1701662.pdf?src-supplier=Digikey; ComponentLink3URL: https://datasheet.ciiva.com/1701/cd00002950-1701663.pdf?src-supplier=Digikey; ComponentLink3Description: https://datasheet.ciiva.com/1701/cd00002950-1701663.pdf?src-supplier=Digikey; ComponentLink4URL: https://datasheet.ciiva.com/16381/cd00002950-16381978.pdf?src-supplier=Future+Electronics; ComponentLink4Description: https://datasheet.ciiva.com/16381/cd00002950-16381978.pdf?src-supplier=Future+Electronics; ComponentLink5URL: https://datasheet.ciiva.com/41459/001185735-da-01-en-ic-dvr-rcvr-5-5v-st3232ebdr-soic-16-stm-41459930.pdf?src-supplier=Conrad; ComponentLink5Description: https://datasheet.ciiva.com/41459/001185735-da-01-en-ic-dvr-rcvr-5-5v-st3232ebdr-soic-16-stm-41459930.pdf?src-supplier=Conrad
footprint PowerSO-8
pins: 1 GND, 2 INPUT, 3 STATUS, 4 STAT_DIS, 5 VCC, 6 OUTPUT, 7 OUTPUT, 8 VCC

## VNH5019ATR-E
designator U?
VNH5019 Series 24 V 30 A Automotive Full Bridge Motor Driver - MultipowerSO-30; Manufacturer: STMicroelectronics; Manufacturer Part Number: VNH5019ATR-E; Max Supply Voltage: 24V; Min Supply Voltage: 5.5V; Motor Type: 5919MotorType; Number of Channels: 2NUMBER; Switching Frequency: 20kHz; Supplier 1: Mouser; RoHS: Yes; Category: Motor Drivers; Stock 1: 78586; Pricing 1: 1=9,69, 10=8,75, 50=8,34, 100=7,24, 1000=5,49, 10000=5,49 (USD); Height: 2.35mm; Lead Free: 5697LeadFree; ComponentLink1URL: https://datasheet.ciiva.com/41458/001184790-da-01-en-ic-motor-driver-vnh5019atr-e-sop-30-stm-41458149.pdf?src-supplier=Conrad; ComponentLink1Description: https://datasheet.ciiva.com/41458/001184790-da-01-en-ic-motor-driver-vnh5019atr-e-sop-30-stm-41458149.pdf?src-supplier=Conrad; ComponentLink2URL: https://datasheet.ciiva.com/6607/cd00234623-6607941.pdf?src-supplier=Digikey; ComponentLink2Description: https://datasheet.ciiva.com/6607/cd00234623-6607941.pdf?src-supplier=Digikey; ComponentLink3URL: https://datasheet.ciiva.com/6607/cd00234623-6607942.pdf?src-supplier=Digikey; ComponentLink3Description: https://datasheet.ciiva.com/6607/cd00234623-6607942.pdf?src-supplier=Digikey; ComponentLink4URL: https://datasheet.ciiva.com/12216/cd00234623-12216232.pdf?src-supplier=Mouser; ComponentLink4Description: https://datasheet.ciiva.com/12216/cd00234623-12216232.pdf?src-supplier=Mouser
footprint VNH5019
pins: 1 OUTA, 2 NC, 3 VCC, 4 INA, 5 ENA/DIAGA, 6 CS_DIS, 7 PWM, 8 CS, 9 ENB/DIAGB, 10 INB, 11 CP, 12 VBAT, 13 VCC, 14 NC, 15 OUTB, 16 OUTB, 17 NC, 18 GNDB, 19 GNDB, 20 GNDB, 21 OUTB, 22 NC, 23 VCC, 24 NC, 25 OUTA, 26 GNDA, 27 GNDA, 28 GNDA, 29 NC, 30 OUTA, 31 OUTA/HEATSLG2, 32 OUTB/HEATSLG3, 33 VCC/HEATSLG1

## W25Q64JVSSIQ
designator U?
IC FLASH 64MBIT 104MHZ 8SOIC; Manufacturer: Winbond; Manufacturer Part Number: W25Q64JVSSIQ; Memory Type: Non-Volatile,FLASH; Frequency: 133MHz; Memory Size: 64Mb; Supplier 1: Digi-Key; RoHS: Yes; Category: Flash; Stock 1: 138661; Pricing 1: 1=1,03, 25=0,9212, 100=0,8173, 500=0,7987, 5000=0,72112 (USD); Mount: Surface Mount; Case/Package: SOIC; Number of Pins: 8; Min Operating Temperature: -40°C; Max Operating Temperature: 85°C; Packaging: Rail/Tube; Series: SpiFlash®; RoHS Compliant: Yes; ComponentLink1URL: http://www.winbond.com/resource-files/w25q64jv%20revj%2003272018%20plus.pdf?src-supplier=Digi-Key; ComponentLink1Description: http://www.winbond.com/resource-files/w25q64jv%20revj%2003272018%20plus.pdf?src-supplier=Digi-Key
footprint W25Q64JVSSIQ (SPI Flash Memory)
pins: 1 CS, 2 SO(D1), 3 WP(D2), 4 GND, 5 SI(D0), 6 SCK, 7 HOLD(IO3), 8 VCC

## W25Q64JVZPIQGTR
designator U?
NOR Flash Serial (SPI, Dual SPI, Quad SPI) 3V/3.3V 64M-bit 8M x 8 6ns 8-Pin WSON EP T/R; Manufacturer: Winbond; Manufacturer Part Number: W25Q64JVZPIQ TR; Memory Type: FLASH,NOR; Frequency: 104MHz; Interface: SPI,Serial; Supplier 1: Arrow Electronics; RoHS: Yes; Category: Memory; Stock 1: 25000; Pricing 1: 5000=0,7816, 10000=0,7504 (USD); Min Operating Temperature: -40°C; Max Operating Temperature: 85°C; Packaging: Tape and Reel; ComponentLink1URL: http://www.winbond.com/resource-files/w25q64jv%20spi%20%20%20revc%2006032016%20kms.pdf?src-supplier=Digi-Key; ComponentLink1Description: http://www.winbond.com/resource-files/w25q64jv%20spi%20%20%20revc%2006032016%20kms.pdf?src-supplier=Digi-Key; ComponentLink2URL: http://www.winbond.com/resource-files/w25q64jv%20revj%2003272018%20plus.pdf?src-supplier=Digi-Key; ComponentLink2Description: http://www.winbond.com/resource-files/w25q64jv%20revj%2003272018%20plus.pdf?src-supplier=Digi-Key
footprint W25Q64JVZPIQ TR (SPI Flash Memory)
pins: 1 CS, 2 SO(D1), 3 WP(D2), 4 GND, 5 SI(D0), 6 SCK, 7 HOLD(IO3), 8 VCC, 9 EP

## WAGO 250-203
designator J?
Barrier Strip Terminal Block, 8A, 1.5mm2, 1 Row(s), 1 Deck(s); Manufacturer: WAGO; Manufacturer Part Number: 250-203; Fastening Method: SPRING LOADED; Number of Decks: 1; Number of Ways: 3; Voltage Rating: 630V; Wire/Cable Gauge: 16AWG; Safety Approval: UL; Supplier: Arrow Electronics; Supplier Part Number: 250-203; RoHS: Yes; Category: Terminal Blocks; Stock: 769; Pricing: 1=0,8076, 10=0,6357, 25=0,6292, 50=0,5604, 100=0,5548, 250=0,4996 (USD); Mounting Technology: Board; Manufacturer Series: 250-203; Number of Rows: 1; Current Rating: 8A; Terminal and Terminal Block Type: BARRIER STRIP TERMINAL BLOCK; Wire Cross Section: 1.5mm2; RoHS Compliant: Yes; Reach SVHC Compliant: Yes; ComponentLink1URL: https://datasheet.ciiva.com:443/pdfs/VipMasterIC/IC/WAGO/WAGO-S-A0007109828/WAGO-S-A0007109690-1.pdf?src-supplier=IHS+Markit; ComponentLink1Description: https://datasheet.ciiva.com:443/pdfs/VipMasterIC/IC/WAGO/WAGO-S-A0007109828/WAGO-S-A0007109690-1.pdf?src-supplier=IHS+Markit; ComponentLink2URL: https://datasheet.ciiva.com/16309/250-203-16309255.pdf?src-supplier=Future+Electronics; ComponentLink2Description: https://datasheet.ciiva.com/16309/250-203-16309255.pdf?src-supplier=Future+Electronics
footprint WAGO 250-203
pins: 1, 2, 3

## WAGO 250-205
designator J?
Barrier Strip Terminal Block, 8A, 1.5mm2, 1 Row(s), 1 Deck(s); Manufacturer: WAGO; Manufacturer Part Number: 250-205; Fastening Method: SPRING LOADED; Number of Decks: 1; Number of Ways: 5; Voltage Rating: 630V; Wire/Cable Gauge: 16AWG; Safety Approval: UL; Supplier: Future Electronics; Supplier Part Number: 6060773; RoHS: Yes; Category: Terminal Blocks; Stock: 720; Pricing: 1=0,915, 30=0,89, 125=0,86, 300=0,845, 1250=0,8 (USD); Mounting Technology: Board; Manufacturer Series: 250-205; Terminal and Terminal Block Type: BARRIER STRIP TERMINAL BLOCK; Number of Rows: 1; Current Rating: 8A; Wire Cross Section: 1.5mm2; Reach SVHC Compliant: Yes; RoHS Compliant: Yes; ComponentLink1URL: https://datasheet.ciiva.com:443/pdfs/VipMasterIC/IC/WAGO/WAGO-S-A0007109828/WAGO-S-A0007110085-1.pdf?src-supplier=IHS+Markit; ComponentLink1Description: https://datasheet.ciiva.com:443/pdfs/VipMasterIC/IC/WAGO/WAGO-S-A0007109828/WAGO-S-A0007110085-1.pdf?src-supplier=IHS+Markit; ComponentLink2URL: https://datasheet.ciiva.com/29214/736201-da-01-de-1-leiter-klemmleiste-rm-3-5-250-205-29214060.pdf?src-supplier=Conrad; ComponentLink2Description: https://datasheet.ciiva.com/29214/736201-da-01-de-1-leiter-klemmleiste-rm-3-5-250-205-29214060.pdf?src-supplier=Conrad
footprint WAGO 250-205
pins: 1, 2, 3, 4, 5

## WEMOS D1 Mini
designator U?
footprint Wemos D1 Mini
pins: 1 3V3, 2 D8, 3 D7, 4 D6, 5 D5, 6 D0, 7 A0, 8 RST, 9 TX, 10 RX, 11 D1, 12 D2, 13 D3, 14 D4, 15 GND, 16 5V

## YX-YT9503
designator U?
BUZZER MAGNETIC WITH CIRCUIT 3V 2.7-KHZ THT Dia 9.00 mm
footprint YX-YT9503
pins: +, -